# Altium footprint library SST39SF020A-70-4C-PHE.PcbLib: 1 footprints
Each footprint in its own frame and in the unit in brackets; x right, y up, seen from the top. Pads: shape width x height; smd on the part's side, far side on the other; paste and mask are expansions set on the pad; w line width, h text height; cw(c..) or ccw(c..) is an arc to the next point about the centre after c.
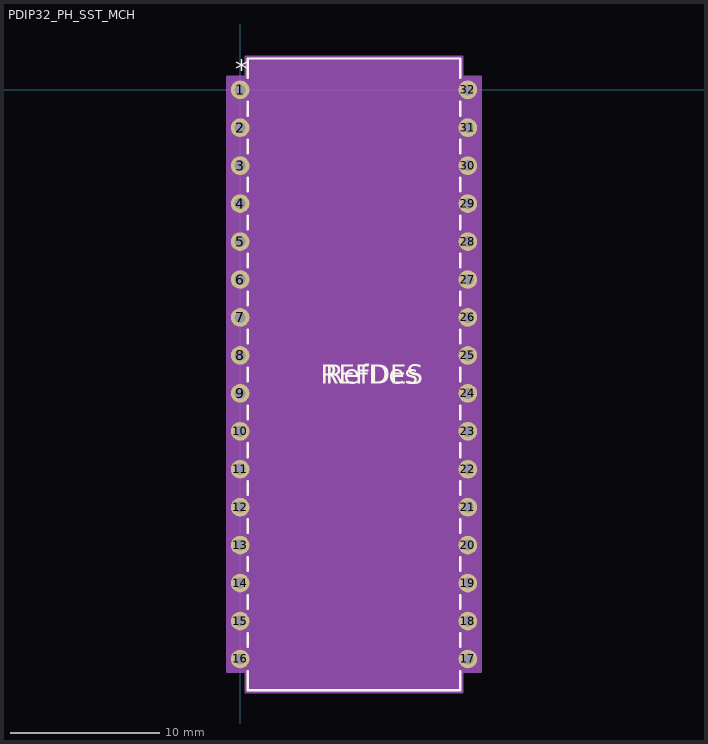
[diagram p0: the footprint, top view; thin cyan lines are the x and y axes]

## PDIP32_PH_SST_MCH [mil]
pads (32):
  round 49 / inner round 60 / far side round 49 hole 29 paste-24.5 mask+0: 1(0,0) 2(0,-100) 3(0,-200) 4(0,-300) 5(0,-400) 6(0,-500) 7(0,-600) 8(0,-700) 9(0,-800) 10(0,-900) 11(0,-1000) 12(0,-1100) 13(0,-1200) 14(0,-1300) 15(0,-1400) 16(0,-1500) 17(600,-1500) 18(600,-1400) 19(600,-1300) 20(600,-1200) 21(600,-1100) 22(600,-1000) 23(600,-900) 24(600,-800) 25(600,-700) 26(600,-600) 27(600,-500) 28(600,-400) 29(600,-300) 30(600,-200) 31(600,-100) 32(600,0)
Top Overlay:
  lines w6: 20,-1531.84 20,-1582.5 580,-1582.5 580,-1531.84 ; 20,-1468.16 20,-1431.84 ; 20,-1368.16 20,-1331.84 ; 20,-1268.16 20,-1231.84 ; 20,-1168.16 20,-1131.84 ; 20,-1068.16 20,-1031.84 ; 20,-968.16 20,-931.84 ; 20,-868.16 20,-831.84 ; 20,-768.16 20,-731.84 ; 20,-668.16 20,-631.84 ; 20,-568.16 20,-531.84 ; 20,-468.16 20,-431.84 ; 20,-368.16 20,-331.84 ; 20,-268.16 20,-231.84 ; 20,-168.16 20,-131.84 ; 20,-68.16 20,-31.84 ; 20,31.84 20,82.5 580,82.5 580,31.84 ; 580,-1468.16 580,-1431.84 ; 580,-1368.16 580,-1331.84 ; 580,-1268.16 580,-1231.84 ; 580,-1168.16 580,-1131.84 ; 580,-1068.16 580,-1031.84 ; 580,-968.16 580,-931.84 ; 580,-868.16 580,-831.84 ; 580,-768.16 580,-731.84 ; 580,-668.16 580,-631.84 ; 580,-568.16 580,-531.84 ; 580,-468.16 580,-431.84 ; 580,-368.16 580,-331.84 ; 580,-268.16 580,-231.84 ; 580,-168.16 580,-131.84 ; 580,-68.16 580,-31.84
  text "*" at -12.5,29.5 h50
  text "RefDes" at 225,-775 h50
  text "REFDES" at 212.5,-775 h50
Mechanical 13:
  lines w0: 288,77.5 ccw(c300,77.5) 312,77.5
  lines w1: -14.5,-1514.5 -14.5,-1485.5 25,-1485.5 25,-1514.5 -14.5,-1514.5 ; -14.5,-1414.5 -14.5,-1385.5 25,-1385.5 25,-1414.5 -14.5,-1414.5 ; -14.5,-1314.5 -14.5,-1285.5 25,-1285.5 25,-1314.5 -14.5,-1314.5 ; -14.5,-1214.5 -14.5,-1185.5 25,-1185.5 25,-1214.5 -14.5,-1214.5 ; -14.5,-1114.5 -14.5,-1085.5 25,-1085.5 25,-1114.5 -14.5,-1114.5 ; -14.5,-1014.5 -14.5,-985.5 25,-985.5 25,-1014.5 -14.5,-1014.5 ; -14.5,-914.5 -14.5,-885.5 25,-885.5 25,-914.5 -14.5,-914.5 ; -14.5,-814.5 -14.5,-785.5 25,-785.5 25,-814.5 -14.5,-814.5 ; -14.5,-714.5 -14.5,-685.5 25,-685.5 25,-714.5 -14.5,-714.5 ; -14.5,-614.5 -14.5,-585.5 25,-585.5 25,-614.5 -14.5,-614.5 ; -14.5,-514.5 -14.5,-485.5 25,-485.5 25,-514.5 -14.5,-514.5 ; -14.5,-414.5 -14.5,-385.5 25,-385.5 25,-414.5 -14.5,-414.5 ; -14.5,-314.5 -14.5,-285.5 25,-285.5 25,-314.5 -14.5,-314.5 ; -14.5,-214.5 -14.5,-185.5 25,-185.5 25,-214.5 -14.5,-214.5 ; -14.5,-114.5 -14.5,-85.5 25,-85.5 25,-114.5 -14.5,-114.5 ; -14.5,-14.5 -14.5,14.5 25,14.5 25,-14.5 -14.5,-14.5 ; 25,-1577.5 575,-1577.5 575,77.5 25,77.5 25,-1577.5 ; 575,-1514.5 575,-1485.5 614.5,-1485.5 614.5,-1514.5 575,-1514.5 ; 575,-1414.5 575,-1385.5 614.5,-1385.5 614.5,-1414.5 575,-1414.5 ; 575,-1314.5 575,-1285.5 614.5,-1285.5 614.5,-1314.5 575,-1314.5 ; 575,-1214.5 575,-1185.5 614.5,-1185.5 614.5,-1214.5 575,-1214.5 ; 575,-1114.5 575,-1085.5 614.5,-1085.5 614.5,-1114.5 575,-1114.5 ; 575,-1014.5 575,-985.5 614.5,-985.5 614.5,-1014.5 575,-1014.5 ; 575,-914.5 575,-885.5 614.5,-885.5 614.5,-914.5 575,-914.5 ; 575,-814.5 575,-785.5 614.5,-785.5 614.5,-814.5 575,-814.5 ; 575,-714.5 575,-685.5 614.5,-685.5 614.5,-714.5 575,-714.5 ; 575,-614.5 575,-585.5 614.5,-585.5 614.5,-614.5 575,-614.5 ; 575,-514.5 575,-485.5 614.5,-485.5 614.5,-514.5 575,-514.5 ; 575,-414.5 575,-385.5 614.5,-385.5 614.5,-414.5 575,-414.5 ; 575,-314.5 575,-285.5 614.5,-285.5 614.5,-314.5 575,-314.5 ; 575,-214.5 575,-185.5 614.5,-185.5 614.5,-214.5 575,-214.5 ; 575,-114.5 575,-85.5 614.5,-85.5 614.5,-114.5 575,-114.5 ; 575,-14.5 575,14.5 614.5,14.5 614.5,-14.5 575,-14.5
  text "*" at 22.5,-25 h50
  text "RefDes2" at 212.5,-775 h50
Mechanical 15:
  region: 585,-1534.5 634.5,-1534.5 634.5,34.5 585,34.5 585,87.5 15,87.5 15,34.5 -34.5,34.5 -34.5,-1534.5 15,-1534.5 15,-1587.5 585,-1587.5
  lines w6: -34.5,-1534.5 -34.5,34.5 15,34.5 15,87.5 585,87.5 585,34.5 634.5,34.5 634.5,-1534.5 585,-1534.5 585,-1587.5 15,-1587.5 15,-1534.5 -34.5,-1534.5
3D body "PDIP32_PH_SST_MCH.step": height 205.12, standoff -100, extent -5,-1577.48 615,77.48